# EAGLE library part CD4071B (library magic)
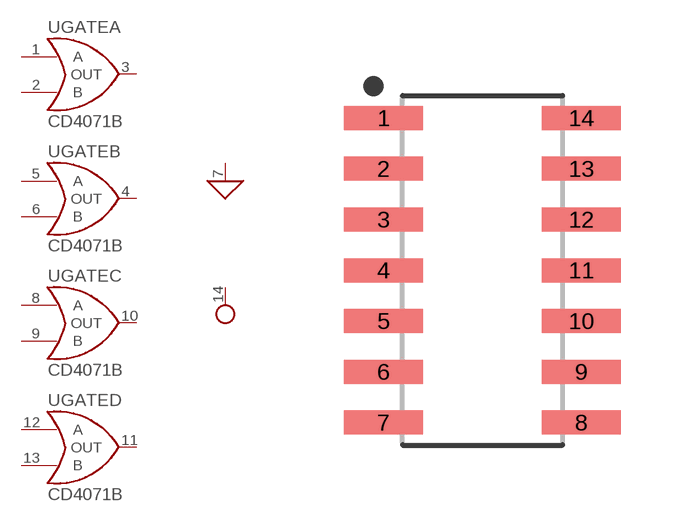
[diagram p4: symbol with the pads of CD407XB; footprint CD407XB]

Designator prefix -; gates GATEA=2-INPUT_OR GATEB=2-INPUT_OR GATEC=2-INPUT_OR GATED=2-INPUT_OR GND=GND VDD=PWR

## CD4071B  [CD407XB]
1  GATEA:A
2  GATEA:B
3  GATEA:OUT
4  GATEB:OUT
5  GATEB:A
6  GATEB:B
7  GND:1
8  GATEC:A
9  GATEC:B
10  GATEC:OUT
11  GATED:OUT
12  GATED:A
13  GATED:B
14  VDD:1

## Footprint CD407XB (pad centres in mm)
14-SOIC, 1.27 mm pitch, 6.00 mm span, 8.65 X 3.90 X 1.75 mm body 14-pin SOIC package with 1.27 mm pitch, 6.00 mm span with body size 8.65 X 3.90 X 1.75 mm
smd 1.968 x 0.599: 1 -2.473,3.81; 2 -2.473,2.54; 3 -2.473,1.27; 4 -2.473,0; 5 -2.473,-1.27; 6 -2.473,-2.54; 7 -2.473,-3.81; 8 2.473,-3.81; 9 2.473,-2.54; 10 2.473,-1.27; 11 2.473,0; 12 2.473,1.27; 13 2.473,2.54; 14 2.473,3.81